# EAGLE library part 1_X_8_HEADER_GENERIC_.1INCH (library 3D_MIG_Controller)
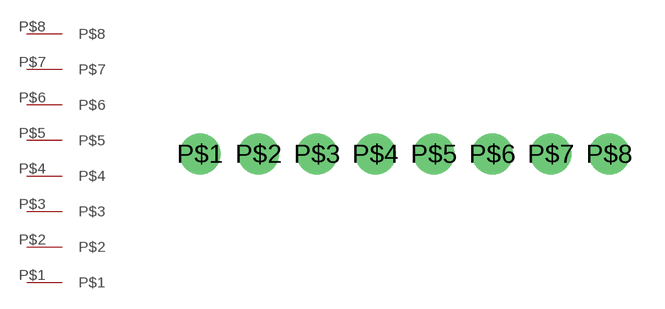
[diagram p79: symbol with the pads of HEADER_1_X_8_.1_INCH; footprint HEADER_1_X_8_.1_INCH]

Designator prefix H

## 1_X_8_HEADER_GENERIC_.1INCH  [HEADER_1_X_8_.1_INCH]
P$1  P$1
P$2  P$2
P$3  P$3
P$4  P$4
P$5  P$5
P$6  P$6
P$7  P$7
P$8  P$8

## Footprint HEADER_1_X_8_.1_INCH (pad centres in mm)
drill 1.2 pad 1.6: P$1 -8.89,0; P$2 -6.35,0; P$3 -3.81,0; P$4 -1.27,0; P$5 1.27,0; P$6 3.81,0; P$7 6.35,0; P$8 8.89,0